# EAGLE library part 3GIM (library RF 3G)
3GIM This is a kind of 3G RF modeule. http://tabrain.jp/data/3GIM_Manual_V01R01.pdf
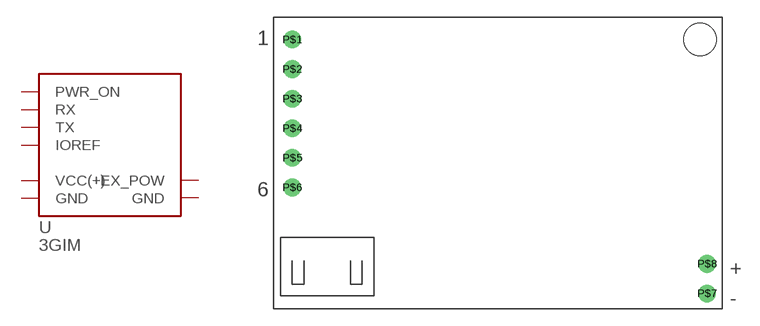
[diagram p0: symbol with the pads of 3GIM; footprint 3GIM]

Designator prefix U

## 3GIM  [3GIM]
P$1  PWR_ON  in
P$2  RX  in
P$3  TX  out
P$4  IOREF  in
P$5  VCC(+)  pwr
P$6  GND  pwr
P$7  GND  pwr
P$8  EX_POW  pwr

## Footprint 3GIM (pad centres in mm)
3GIM This is a kind of 3G RF modeule. http://tabrain.jp/data/3GIM_Manual_V01R01.pdf
drill 1: P$1 -35,0; P$2 -35,-2.54; P$3 -35,-5.08; P$4 -35,-7.62; P$5 -35,-10.16; P$6 -35,-12.7; P$7 0.6,-21.8; P$8 0.6,-19.26
hole 2.8 at 0,0